# Altium integrated library ST Converter Digital to Analog.IntLib: 22 symbols
Pins are listed as number, name and electrical type; pins without a type are passive.

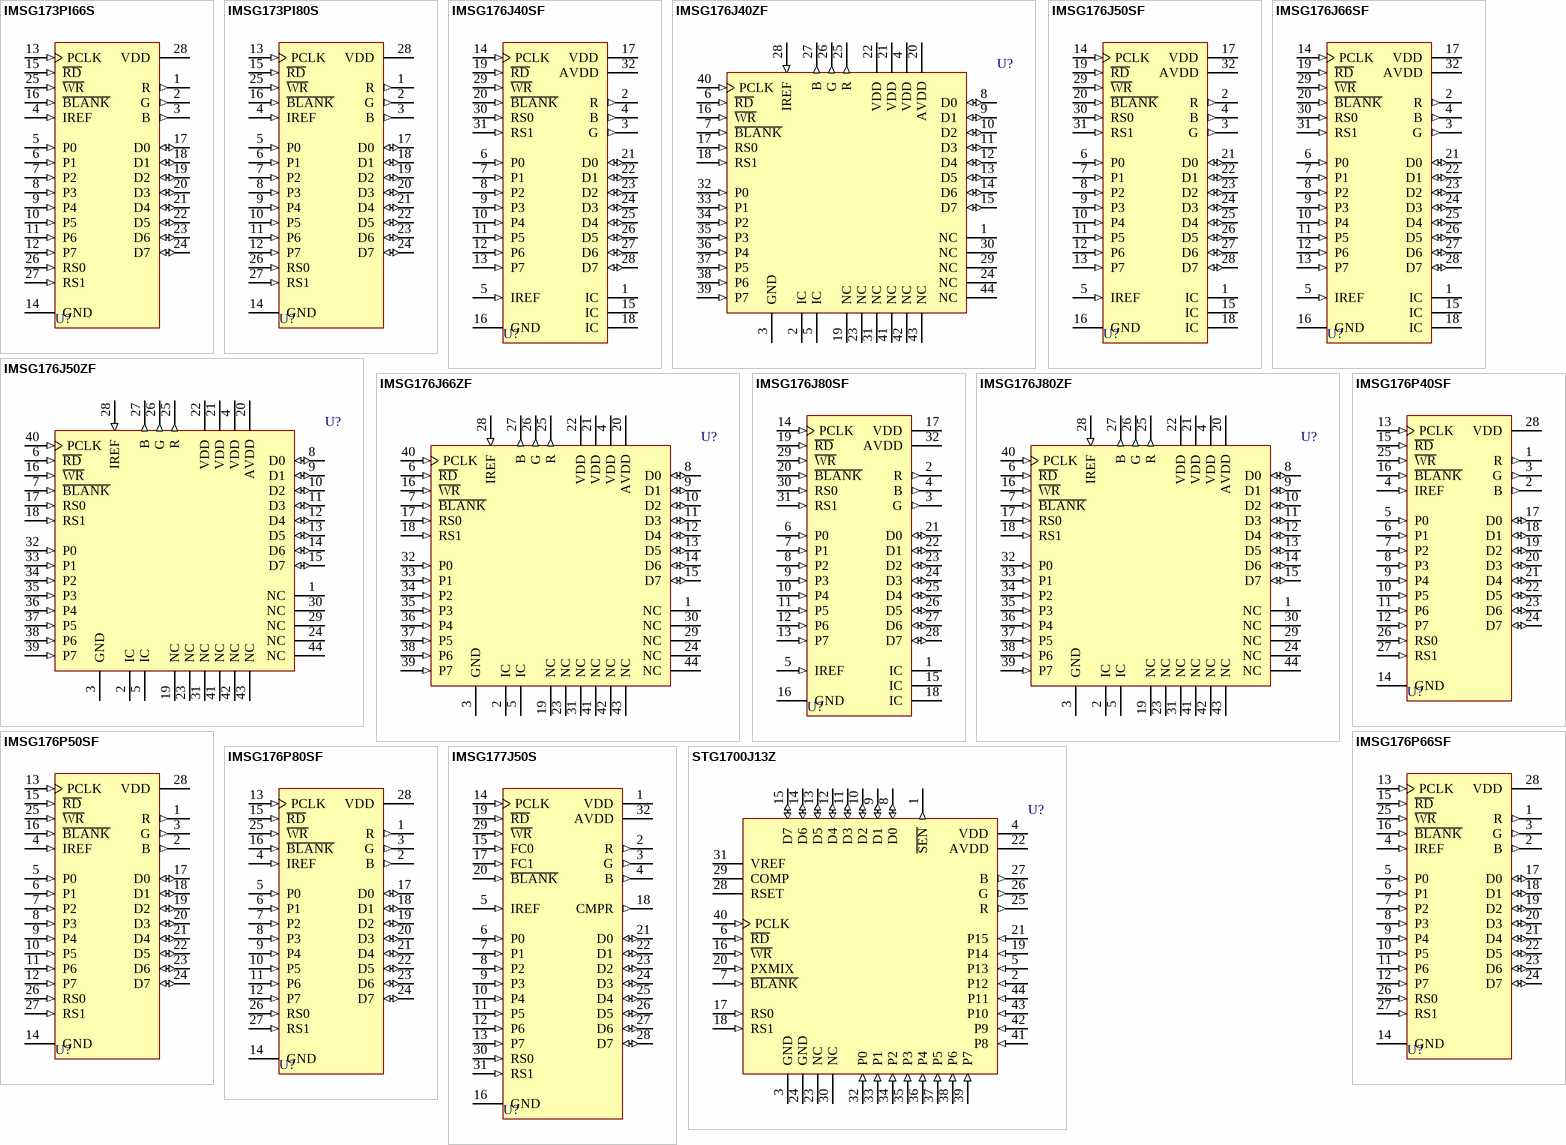
[diagram p0: symbols IMSG173PI66S to STG1700J13Z]

## IMSG173PI66S
designator U?
High-Colour Palette-DAC with PixMix; Published: 24-Aug-2001; LatestRevisionDate: 06-Jun-2005; LatestRevisionNote: Stylized 3D Model Added.; DatasheetVersion: Jul-1992; PackageVersion: Jan-2003; PackageReference: PDIP28; Publisher: Altium Limited; PackageDescription: DIP; 28 Leads; Row Spacing 15.24 mm; Pitch 2.54 mm; ComponentLink1Description: Manufacturer Link; ComponentLink1URL: http://www.st.com/
footprint PDIP28 (DIP; 28 Leads; Row Spacing 15.24 mm; Pitch 2.54 mm)
3D model PDIP28 (DIP; 28 Leads; Row Spacing 15.24 mm; Pitch 2.54 mm)
pins: 1 R (out), 2 G (out), 3 B (out), 4 IREF (in), 5 P0 (in), 6 P1 (in), 7 P2 (in), 8 P3 (in), 9 P4 (in), 10 P5 (in), 11 P6 (in), 12 P7 (in), 13 PCLK (in), 14 GND (power), 15 ~{RD} (in), 16 ~{BLANK} (in), 17 D0 (io), 18 D1 (io), 19 D2 (io), 20 D3 (io), 21 D4 (io), 22 D5 (io), 23 D6 (io), 24 D7 (io), 25 ~{WR} (in), 26 RS0 (in), 27 RS1 (in), 28 VDD (power)

## IMSG173PI80S
designator U?
High-Colour Palette-DAC with PixMix; Published: 24-Aug-2001; LatestRevisionDate: 06-Jun-2005; LatestRevisionNote: Stylized 3D Model Added.; DatasheetVersion: Jul-1992; PackageVersion: Jan-2003; PackageReference: PDIP28; Publisher: Altium Limited; PackageDescription: DIP; 28 Leads; Row Spacing 15.24 mm; Pitch 2.54 mm; ComponentLink1Description: Manufacturer Link; ComponentLink1URL: http://www.st.com/
footprint PDIP28 (DIP; 28 Leads; Row Spacing 15.24 mm; Pitch 2.54 mm)
3D model PDIP28 (DIP; 28 Leads; Row Spacing 15.24 mm; Pitch 2.54 mm)
pins: 1 R (out), 2 G (out), 3 B (out), 4 IREF (in), 5 P0 (in), 6 P1 (in), 7 P2 (in), 8 P3 (in), 9 P4 (in), 10 P5 (in), 11 P6 (in), 12 P7 (in), 13 PCLK (in), 14 GND (power), 15 ~{RD} (in), 16 ~{BLANK} (in), 17 D0 (io), 18 D1 (io), 19 D2 (io), 20 D3 (io), 21 D4 (io), 22 D5 (io), 23 D6 (io), 24 D7 (io), 25 ~{WR} (in), 26 RS0 (in), 27 RS1 (in), 28 VDD (power)

## IMSG176J40SF
designator U?
High-Performance CMOS Palette-DAC; Note: Pins 1, 15 and 18 are internally connected; Published: 24-Aug-2001; LatestRevisionDate: 06-Jun-2005; LatestRevisionNote: Stylized 3D Model Added.; DatasheetVersion: Apr-1992; PackageVersion: Jun-1998; PackageReference: PLCC32; Publisher: Altium Limited; PackageDescription: Leaded Chip Carrier; 32 Leads; Body 11.5 x 14 mm; Code_JEDEC: MS-016-AE; Code_IPC: PLCC/R-32; ComponentLink1Description: Manufacturer Link; ComponentLink1URL: http://www.st.com/
footprint PLCC32 (Leaded Chip Carrier; 32 Leads; Body 11.5 x 14 mm)
3D model IMSG176-PLCC32 (Leaded Chip Carrier; 32 Leads; Body 11.5 x 14 mm)
pins: 1 IC, 2 R (out), 3 G (out), 4 B (out), 5 IREF (in), 6 P0 (in), 7 P1 (in), 8 P2 (in), 9 P3 (in), 10 P4 (in), 11 P5 (in), 12 P6 (in), 13 P7 (in), 14 PCLK (in), 15 IC, 16 GND (power), 17 VDD (power), 18 IC, 19 ~{RD} (in), 20 ~{BLANK} (in), 21 D0 (io), 22 D1 (io), 23 D2 (io), 24 D3 (io), 25 D4 (io), 26 D5 (io), 27 D6 (io), 28 D7 (io), 29 ~{WR} (in), 30 RS0 (in), 31 RS1 (in), 32 AVDD (power)

## IMSG176J40ZF
designator U?
High-Performance CMOS Palette-DAC; Note: Pins 2 and 5 should be tied to GND; Published: 24-Aug-2001; LatestRevisionDate: 13-Apr-2006; LatestRevisionNote: IPC-7351 Footprint Added.; DatasheetVersion: Apr-1992; PackageReference: PLCC44B; Publisher: Altium Limited; PackageDescription: 44-Pin Leaded Chip Carrier 1.27 mm Pitch; ComponentLink1Description: Manufacturer Link; ComponentLink1URL: http://www.st.com/
footprint PLCC44B_N (Leaded Chip Carrier, 44-Leads, Body 16.6x16.6mm, Pitch 1.27mm, IPC Medium Density)
footprint PLCC44B_L (Leaded Chip Carrier, 44-Leads, Body 16.6x16.6mm, Pitch 1.27mm, IPC High Density)
footprint PLCC44B_M (Leaded Chip Carrier, 44-Leads, Body 16.6x16.6mm, Pitch 1.27mm, IPC Low Density)
3D model IMSG176-PLCC44 (44-Pin Leaded Chip Carrier 1.27 mm Pitch)
pins: 1 NC, 2 IC, 3 GND (power), 4 VDD (power), 5 IC, 6 ~{RD} (in), 7 ~{BLANK} (in), 8 D0 (io), 9 D1 (io), 10 D2 (io), 11 D3 (io), 12 D4 (io), 13 D5 (io), 14 D6 (io), 15 D7 (io), 16 ~{WR} (in), 17 RS0 (in), 18 RS1 (in), 19 NC, 20 AVDD (power), 21 VDD (power), 22 VDD (power), 23 NC, 24 NC, 25 R (out), 26 G (out), 27 B (out), 28 IREF (in), 29 NC, 30 NC, 31 NC, 32 P0 (in), 33 P1 (in), 34 P2 (in), 35 P3 (in), 36 P4 (in), 37 P5 (in), 38 P6 (in), 39 P7 (in), 40 PCLK (in), 41 NC, 42 NC, 43 NC, 44 NC

## IMSG176J50SF
designator U?
High-Performance CMOS Palette-DAC; Note: Pins 1, 15 and 18 are internally connected; Published: 24-Aug-2001; LatestRevisionDate: 06-Jun-2005; LatestRevisionNote: Stylized 3D Model Added.; DatasheetVersion: Apr-1992; PackageVersion: Jun-1998; PackageReference: PLCC32; Publisher: Altium Limited; PackageDescription: Leaded Chip Carrier; 32 Leads; Body 11.5 x 14 mm; Code_JEDEC: MS-016-AE; Code_IPC: PLCC/R-32; ComponentLink1Description: Manufacturer Link; ComponentLink1URL: http://www.st.com/
footprint PLCC32 (Leaded Chip Carrier; 32 Leads; Body 11.5 x 14 mm)
3D model IMSG176-PLCC32 (Leaded Chip Carrier; 32 Leads; Body 11.5 x 14 mm)
pins: 1 IC, 2 R (out), 3 G (out), 4 B (out), 5 IREF (in), 6 P0 (in), 7 P1 (in), 8 P2 (in), 9 P3 (in), 10 P4 (in), 11 P5 (in), 12 P6 (in), 13 P7 (in), 14 PCLK (in), 15 IC, 16 GND (power), 17 VDD (power), 18 IC, 19 ~{RD} (in), 20 ~{BLANK} (in), 21 D0 (io), 22 D1 (io), 23 D2 (io), 24 D3 (io), 25 D4 (io), 26 D5 (io), 27 D6 (io), 28 D7 (io), 29 ~{WR} (in), 30 RS0 (in), 31 RS1 (in), 32 AVDD (power)

## IMSG176J50ZF
designator U?
High-Performance CMOS Palette-DAC; Note: Pins 2 and 5 should be tied to GND; Published: 24-Aug-2001; LatestRevisionDate: 13-Apr-2006; LatestRevisionNote: IPC-7351 Footprint Added.; DatasheetVersion: Apr-1992; PackageReference: PLCC44B; Publisher: Altium Limited; PackageDescription: 44-Pin Leaded Chip Carrier 1.27 mm Pitch; ComponentLink1Description: Manufacturer Link; ComponentLink1URL: http://www.st.com/
footprint PLCC44B_N (Leaded Chip Carrier, 44-Leads, Body 16.6x16.6mm, Pitch 1.27mm, IPC Medium Density)
footprint PLCC44B_L (Leaded Chip Carrier, 44-Leads, Body 16.6x16.6mm, Pitch 1.27mm, IPC High Density)
footprint PLCC44B_M (Leaded Chip Carrier, 44-Leads, Body 16.6x16.6mm, Pitch 1.27mm, IPC Low Density)
3D model IMSG176-PLCC44 (44-Pin Leaded Chip Carrier 1.27 mm Pitch)
pins: 1 NC, 2 IC, 3 GND (power), 4 VDD (power), 5 IC, 6 ~{RD} (in), 7 ~{BLANK} (in), 8 D0 (io), 9 D1 (io), 10 D2 (io), 11 D3 (io), 12 D4 (io), 13 D5 (io), 14 D6 (io), 15 D7 (io), 16 ~{WR} (in), 17 RS0 (in), 18 RS1 (in), 19 NC, 20 AVDD (power), 21 VDD (power), 22 VDD (power), 23 NC, 24 NC, 25 R (out), 26 G (out), 27 B (out), 28 IREF (in), 29 NC, 30 NC, 31 NC, 32 P0 (in), 33 P1 (in), 34 P2 (in), 35 P3 (in), 36 P4 (in), 37 P5 (in), 38 P6 (in), 39 P7 (in), 40 PCLK (in), 41 NC, 42 NC, 43 NC, 44 NC

## IMSG176J66SF
designator U?
High-Performance CMOS Palette-DAC; Note: Pins 1, 15 and 18 are internally connected; Published: 24-Aug-2001; LatestRevisionDate: 06-Jun-2005; LatestRevisionNote: Stylized 3D Model Added.; DatasheetVersion: Apr-1992; PackageVersion: Jun-1998; PackageReference: PLCC32; Publisher: Altium Limited; PackageDescription: Leaded Chip Carrier; 32 Leads; Body 11.5 x 14 mm; Code_JEDEC: MS-016-AE; Code_IPC: PLCC/R-32; ComponentLink1Description: Manufacturer Link; ComponentLink1URL: http://www.st.com/
footprint PLCC32 (Leaded Chip Carrier; 32 Leads; Body 11.5 x 14 mm)
3D model IMSG176-PLCC32 (Leaded Chip Carrier; 32 Leads; Body 11.5 x 14 mm)
pins: 1 IC, 2 R (out), 3 G (out), 4 B (out), 5 IREF (in), 6 P0 (in), 7 P1 (in), 8 P2 (in), 9 P3 (in), 10 P4 (in), 11 P5 (in), 12 P6 (in), 13 P7 (in), 14 PCLK (in), 15 IC, 16 GND (power), 17 VDD (power), 18 IC, 19 ~{RD} (in), 20 ~{BLANK} (in), 21 D0 (io), 22 D1 (io), 23 D2 (io), 24 D3 (io), 25 D4 (io), 26 D5 (io), 27 D6 (io), 28 D7 (io), 29 ~{WR} (in), 30 RS0 (in), 31 RS1 (in), 32 AVDD (power)

## IMSG176J66ZF
designator U?
High-Performance CMOS Palette-DAC; Note: Pins 2 and 5 should be tied to GND; Published: 24-Aug-2001; LatestRevisionDate: 13-Apr-2006; LatestRevisionNote: IPC-7351 Footprint Added.; DatasheetVersion: Apr-1992; PackageReference: PLCC44B; Publisher: Altium Limited; PackageDescription: 44-Pin Leaded Chip Carrier 1.27 mm Pitch; ComponentLink1Description: Manufacturer Link; ComponentLink1URL: http://www.st.com/
footprint PLCC44B_N (Leaded Chip Carrier, 44-Leads, Body 16.6x16.6mm, Pitch 1.27mm, IPC Medium Density)
footprint PLCC44B_L (Leaded Chip Carrier, 44-Leads, Body 16.6x16.6mm, Pitch 1.27mm, IPC High Density)
footprint PLCC44B_M (Leaded Chip Carrier, 44-Leads, Body 16.6x16.6mm, Pitch 1.27mm, IPC Low Density)
3D model IMSG176-PLCC44 (44-Pin Leaded Chip Carrier 1.27 mm Pitch)
pins: 1 NC, 2 IC, 3 GND (power), 4 VDD (power), 5 IC, 6 ~{RD} (in), 7 ~{BLANK} (in), 8 D0 (io), 9 D1 (io), 10 D2 (io), 11 D3 (io), 12 D4 (io), 13 D5 (io), 14 D6 (io), 15 D7 (io), 16 ~{WR} (in), 17 RS0 (in), 18 RS1 (in), 19 NC, 20 AVDD (power), 21 VDD (power), 22 VDD (power), 23 NC, 24 NC, 25 R (out), 26 G (out), 27 B (out), 28 IREF (in), 29 NC, 30 NC, 31 NC, 32 P0 (in), 33 P1 (in), 34 P2 (in), 35 P3 (in), 36 P4 (in), 37 P5 (in), 38 P6 (in), 39 P7 (in), 40 PCLK (in), 41 NC, 42 NC, 43 NC, 44 NC

## IMSG176J80SF
designator U?
High-Performance CMOS Palette-DAC; Note: Pins 1, 15 and 18 are internally connected; Published: 24-Aug-2001; LatestRevisionDate: 06-Jun-2005; LatestRevisionNote: Stylized 3D Model Added.; DatasheetVersion: Apr-1992; PackageVersion: Jun-1998; PackageReference: PLCC32; Publisher: Altium Limited; PackageDescription: Leaded Chip Carrier; 32 Leads; Body 11.5 x 14 mm; Code_JEDEC: MS-016-AE; Code_IPC: PLCC/R-32; ComponentLink1Description: Manufacturer Link; ComponentLink1URL: http://www.st.com/
footprint PLCC32 (Leaded Chip Carrier; 32 Leads; Body 11.5 x 14 mm)
3D model IMSG176-PLCC32 (Leaded Chip Carrier; 32 Leads; Body 11.5 x 14 mm)
pins: 1 IC, 2 R (out), 3 G (out), 4 B (out), 5 IREF (in), 6 P0 (in), 7 P1 (in), 8 P2 (in), 9 P3 (in), 10 P4 (in), 11 P5 (in), 12 P6 (in), 13 P7 (in), 14 PCLK (in), 15 IC, 16 GND (power), 17 VDD (power), 18 IC, 19 ~{RD} (in), 20 ~{BLANK} (in), 21 D0 (io), 22 D1 (io), 23 D2 (io), 24 D3 (io), 25 D4 (io), 26 D5 (io), 27 D6 (io), 28 D7 (io), 29 ~{WR} (in), 30 RS0 (in), 31 RS1 (in), 32 AVDD (power)

## IMSG176J80ZF
designator U?
High-Performance CMOS Palette-DAC; Note: Pins 2 and 5 should be tied to GND; Published: 24-Aug-2001; LatestRevisionDate: 13-Apr-2006; LatestRevisionNote: IPC-7351 Footprint Added.; DatasheetVersion: Apr-1992; PackageReference: PLCC44B; Publisher: Altium Limited; PackageDescription: 44-Pin Leaded Chip Carrier 1.27 mm Pitch; ComponentLink1Description: Manufacturer Link; ComponentLink1URL: http://www.st.com/
footprint PLCC44B_N (Leaded Chip Carrier, 44-Leads, Body 16.6x16.6mm, Pitch 1.27mm, IPC Medium Density)
footprint PLCC44B_L (Leaded Chip Carrier, 44-Leads, Body 16.6x16.6mm, Pitch 1.27mm, IPC High Density)
footprint PLCC44B_M (Leaded Chip Carrier, 44-Leads, Body 16.6x16.6mm, Pitch 1.27mm, IPC Low Density)
3D model IMSG176-PLCC44 (44-Pin Leaded Chip Carrier 1.27 mm Pitch)
pins: 1 NC, 2 IC, 3 GND (power), 4 VDD (power), 5 IC, 6 ~{RD} (in), 7 ~{BLANK} (in), 8 D0 (io), 9 D1 (io), 10 D2 (io), 11 D3 (io), 12 D4 (io), 13 D5 (io), 14 D6 (io), 15 D7 (io), 16 ~{WR} (in), 17 RS0 (in), 18 RS1 (in), 19 NC, 20 AVDD (power), 21 VDD (power), 22 VDD (power), 23 NC, 24 NC, 25 R (out), 26 G (out), 27 B (out), 28 IREF (in), 29 NC, 30 NC, 31 NC, 32 P0 (in), 33 P1 (in), 34 P2 (in), 35 P3 (in), 36 P4 (in), 37 P5 (in), 38 P6 (in), 39 P7 (in), 40 PCLK (in), 41 NC, 42 NC, 43 NC, 44 NC

## IMSG176P40SF
designator U?
High-Performance CMOS Palette-DAC; Published: 24-Aug-2001; LatestRevisionDate: 06-Jun-2005; LatestRevisionNote: Stylized 3D Model Added.; DatasheetVersion: Apr-1992; PackageVersion: Jan-2003; PackageReference: PDIP28; Publisher: Altium Limited; PackageDescription: DIP; 28 Leads; Row Spacing 15.24 mm; Pitch 2.54 mm; ComponentLink1Description: Manufacturer Link; ComponentLink1URL: http://www.st.com/
footprint PDIP28 (DIP; 28 Leads; Row Spacing 15.24 mm; Pitch 2.54 mm)
3D model PDIP28 (DIP; 28 Leads; Row Spacing 15.24 mm; Pitch 2.54 mm)
pins: 1 R (out), 2 B (out), 3 G (out), 4 IREF (in), 5 P0 (in), 6 P1 (in), 7 P2 (in), 8 P3 (in), 9 P4 (in), 10 P5 (in), 11 P6 (in), 12 P7 (in), 13 PCLK (in), 14 GND (power), 15 ~{RD} (in), 16 ~{BLANK} (in), 17 D0 (io), 18 D1 (io), 19 D2 (io), 20 D3 (io), 21 D4 (io), 22 D5 (io), 23 D6 (io), 24 D7 (io), 25 ~{WR} (in), 26 RS0 (in), 27 RS1 (in), 28 VDD (power)

## IMSG176P50SF
designator U?
High-Performance CMOS Palette-DAC; Published: 24-Aug-2001; LatestRevisionDate: 06-Jun-2005; LatestRevisionNote: Stylized 3D Model Added.; DatasheetVersion: Apr-1992; PackageVersion: Jan-2003; PackageReference: PDIP28; Publisher: Altium Limited; PackageDescription: DIP; 28 Leads; Row Spacing 15.24 mm; Pitch 2.54 mm; ComponentLink1Description: Manufacturer Link; ComponentLink1URL: http://www.st.com/
footprint PDIP28 (DIP; 28 Leads; Row Spacing 15.24 mm; Pitch 2.54 mm)
3D model PDIP28 (DIP; 28 Leads; Row Spacing 15.24 mm; Pitch 2.54 mm)
pins: 1 R (out), 2 B (out), 3 G (out), 4 IREF (in), 5 P0 (in), 6 P1 (in), 7 P2 (in), 8 P3 (in), 9 P4 (in), 10 P5 (in), 11 P6 (in), 12 P7 (in), 13 PCLK (in), 14 GND (power), 15 ~{RD} (in), 16 ~{BLANK} (in), 17 D0 (io), 18 D1 (io), 19 D2 (io), 20 D3 (io), 21 D4 (io), 22 D5 (io), 23 D6 (io), 24 D7 (io), 25 ~{WR} (in), 26 RS0 (in), 27 RS1 (in), 28 VDD (power)

## IMSG176P66SF
designator U?
High-Performance CMOS Palette-DAC; Published: 24-Aug-2001; LatestRevisionDate: 06-Jun-2005; LatestRevisionNote: Stylized 3D Model Added.; DatasheetVersion: Apr-1992; PackageVersion: Jan-2003; PackageReference: PDIP28; Publisher: Altium Limited; PackageDescription: DIP; 28 Leads; Row Spacing 15.24 mm; Pitch 2.54 mm; ComponentLink1Description: Manufacturer Link; ComponentLink1URL: http://www.st.com/
footprint PDIP28 (DIP; 28 Leads; Row Spacing 15.24 mm; Pitch 2.54 mm)
3D model PDIP28 (DIP; 28 Leads; Row Spacing 15.24 mm; Pitch 2.54 mm)
pins: 1 R (out), 2 B (out), 3 G (out), 4 IREF (in), 5 P0 (in), 6 P1 (in), 7 P2 (in), 8 P3 (in), 9 P4 (in), 10 P5 (in), 11 P6 (in), 12 P7 (in), 13 PCLK (in), 14 GND (power), 15 ~{RD} (in), 16 ~{BLANK} (in), 17 D0 (io), 18 D1 (io), 19 D2 (io), 20 D3 (io), 21 D4 (io), 22 D5 (io), 23 D6 (io), 24 D7 (io), 25 ~{WR} (in), 26 RS0 (in), 27 RS1 (in), 28 VDD (power)

## IMSG176P80SF
designator U?
High-Performance CMOS Palette-DAC; Published: 24-Aug-2001; LatestRevisionDate: 06-Jun-2005; LatestRevisionNote: Stylized 3D Model Added.; DatasheetVersion: Apr-1992; PackageVersion: Jan-2003; PackageReference: PDIP28; Publisher: Altium Limited; PackageDescription: DIP; 28 Leads; Row Spacing 15.24 mm; Pitch 2.54 mm; ComponentLink1Description: Manufacturer Link; ComponentLink1URL: http://www.st.com/
footprint PDIP28 (DIP; 28 Leads; Row Spacing 15.24 mm; Pitch 2.54 mm)
3D model PDIP28 (DIP; 28 Leads; Row Spacing 15.24 mm; Pitch 2.54 mm)
pins: 1 R (out), 2 B (out), 3 G (out), 4 IREF (in), 5 P0 (in), 6 P1 (in), 7 P2 (in), 8 P3 (in), 9 P4 (in), 10 P5 (in), 11 P6 (in), 12 P7 (in), 13 PCLK (in), 14 GND (power), 15 ~{RD} (in), 16 ~{BLANK} (in), 17 D0 (io), 18 D1 (io), 19 D2 (io), 20 D3 (io), 21 D4 (io), 22 D5 (io), 23 D6 (io), 24 D7 (io), 25 ~{WR} (in), 26 RS0 (in), 27 RS1 (in), 28 VDD (power)

## IMSG177J50S
designator U?
Power Down Colour Palette-DAC; Published: 24-Aug-2001; LatestRevisionDate: 06-Jun-2005; LatestRevisionNote: Stylized 3D Model Added.; DatasheetVersion: Apr-1992; PackageVersion: Jun-1998; PackageReference: PLCC32; Publisher: Altium Limited; PackageDescription: Leaded Chip Carrier; 32 Leads; Body 11.5 x 14 mm; Code_JEDEC: MS-016-AE; Code_IPC: PLCC/R-32; ComponentLink1Description: Manufacturer Link; ComponentLink1URL: http://www.st.com/
footprint PLCC32 (Leaded Chip Carrier; 32 Leads; Body 11.5 x 14 mm)
3D model IMSG177-PLCC32 (Leaded Chip Carrier; 32 Leads; Body 11.5 x 14 mm)
pins: 1 VDD (power), 2 R (out), 3 G (out), 4 B (out), 5 IREF (in), 6 P0 (in), 7 P1 (in), 8 P2 (in), 9 P3 (in), 10 P4 (in), 11 P5 (in), 12 P6 (in), 13 P7 (in), 14 PCLK (in), 15 FC0 (in), 16 GND (power), 17 FC1 (in), 18 CMPR (out), 19 ~{RD} (in), 20 ~{BLANK} (in), 21 D0 (io), 22 D1 (io), 23 D2 (io), 24 D3 (io), 25 D4 (io), 26 D5 (io), 27 D6 (io), 28 D7 (io), 29 ~{WR} (in), 30 RS0 (in), 31 RS1 (in), 32 AVDD (power)

## STG1700J13Z
designator U?
True-Colour Palette-DAC with 16-Bit Pixel Port; Published: 24-Aug-2001; LatestRevisionDate: 13-Apr-2006; LatestRevisionNote: IPC-7351 Footprint Added.; PackageReference: PLCC44B; Publisher: Altium Limited; PackageDescription: 44-Pin Leaded Chip Carrier 1.27 mm Pitch; ComponentLink1Description: Manufacturer Link; ComponentLink1URL: http://www.st.com/
footprint PLCC44B_N (Leaded Chip Carrier, 44-Leads, Body 16.6x16.6mm, Pitch 1.27mm, IPC Medium Density)
footprint PLCC44B_L (Leaded Chip Carrier, 44-Leads, Body 16.6x16.6mm, Pitch 1.27mm, IPC High Density)
footprint PLCC44B_M (Leaded Chip Carrier, 44-Leads, Body 16.6x16.6mm, Pitch 1.27mm, IPC Low Density)
3D model STG1700-PLCC44 (44-Pin Leaded Chip Carrier 1.27 mm Pitch)
pins: 1 ~{SEN} (out), 2 P12 (in), 3 GND (power), 4 VDD (power), 5 P13 (in), 6 ~{RD} (in), 7 ~{BLANK} (in), 8 D0 (io), 9 D1 (io), 10 D2 (io), 11 D3 (io), 12 D4 (io), 13 D5 (io), 14 D6 (io), 15 D7 (io), 16 ~{WR} (in), 17 RS0 (in), 18 RS1 (in), 19 P14 (in), 20 PXMIX (in), 21 P15 (in), 22 AVDD (power), 23 NC, 24 GND (power), 25 R (out), 26 G (out), 27 B (out), 28 RSET, 29 COMP, 30 NC, 31 VREF, 32 P0 (in), 33 P1 (in), 34 P2 (in), 35 P3 (in), 36 P4 (in), 37 P5 (in), 38 P6 (in), 39 P7 (in), 40 PCLK (in), 41 P8 (in), 42 P9 (in), 43 P10 (in), 44 P11 (in)

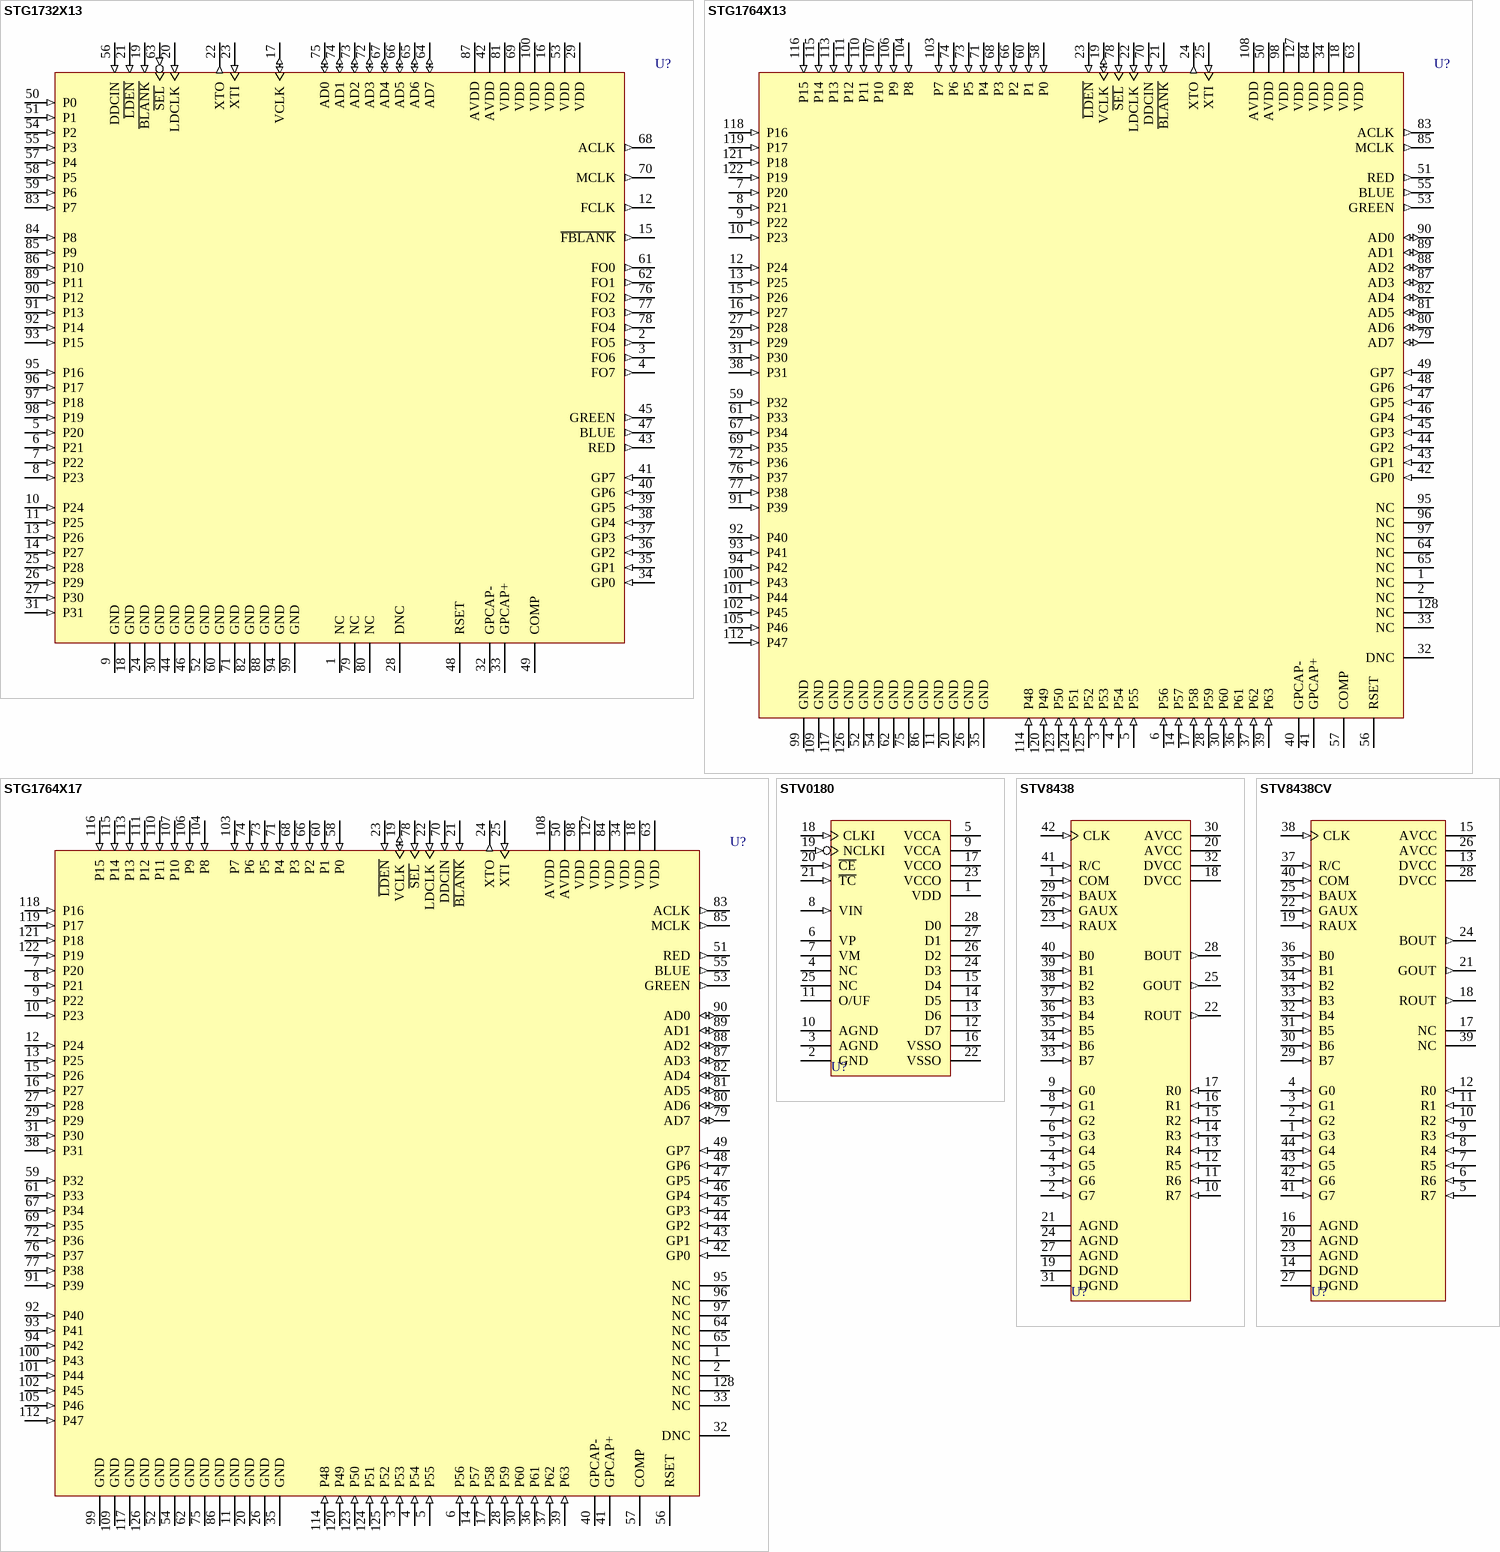
[diagram p1: symbols STG1732X13 to STV8438CV]

## STG1732X13
designator U?
32/64-Bit Multimedia Palette-DAC; Note: Make no connection to pin 28; Published: 24-Aug-2001; LatestRevisionDate: 13-Apr-2006; LatestRevisionNote: IPC-7351 Footprint Added.; DatasheetVersion: Jun-1995; PackageVersion: Jun-2003; PackageReference: PQFP100; Publisher: Altium Limited; PackageDescription: 100-Pin Plastic Quad Flat Pack Rectangular 0.65 mm Pitch; Code_IPC: QFP65P1720X2320-100; ComponentLink1Description: Manufacturer Link; ComponentLink1URL: http://www.st.com/
footprint PQFP100_N (QFP, 100-Leads, Body 20x14mm, Pitch 0.65mm, IPC Medium Density)
footprint PQFP100_L (QFP, 100-Leads, Body 20x14mm, Pitch 0.65mm, IPC High Density)
footprint PQFP100_M (QFP, 100-Leads, Body 20x14mm, Pitch 0.65mm, IPC Low Density)
3D model STG1732-PQFP100 (100-Pin Plastic Quad Flat Pack Rectangular 0.65 mm Pitch)
pins: 1 NC, 2 FO5 (out), 3 FO6 (out), 4 FO7 (out), 5 P20 (in), 6 P21 (in), 7 P22 (in), 8 P23 (in), 9 GND (power), 10 P24 (in), 11 P25 (in), 12 FCLK (out), 13 P26 (in), 14 P27 (in), 15 ~{FBLANK} (out), 16 VDD (power), 17 VCLK (io), 18 GND (power), 19 ~{BLANK} (in), 20 LDCLK (in), 21 ~{LDEN} (in), 22 XTO (out), 23 XTI (in), 24 GND (power), 25 P28 (in), 26 P29 (in), 27 P30 (in), 28 DNC, 29 VDD (power), 30 GND (power), 31 P31 (in), 32 GPCAP-, 33 GPCAP+, 34 GP0 (in), 35 GP1 (in), 36 GP2 (in), 37 GP3 (in), 38 GP4 (in), 39 GP5 (in), 40 GP6 (in), 41 GP7 (in), 42 AVDD (power), 43 RED (out), 44 GND (power), 45 GREEN (out), 46 GND (power), 47 BLUE (out), 48 RSET, 49 COMP, 50 P0 (in), 51 P1 (in), 52 GND (power), 53 VDD (power), 54 P2 (in), 55 P3 (in), 56 DDCIN (in), 57 P4 (in), 58 P5 (in), 59 P6 (in), 60 GND (power), 61 FO0 (out), 62 FO1 (out), 63 ~{SEL} (in), 64 AD7 (io), 65 AD6 (io), 66 AD5 (io), 67 AD4 (io), 68 ACLK (out), 69 VDD (power), 70 MCLK (out), 71 GND (power), 72 AD3 (io), 73 AD2 (io), 74 AD1 (io), 75 AD0 (io), 76 FO2 (out), 77 FO3 (out), 78 FO4 (out), 79 NC, 80 NC, 81 VDD (power), 82 GND (power), 83 P7 (in), 84 P8 (in), 85 P9 (in), 86 P10 (in), 87 AVDD (power), 88 GND (power), 89 P11 (in), 90 P12 (in), 91 P13 (in), 92 P14 (in), 93 P15 (in), 94 GND (power), 95 P16 (in), 96 P17 (in), 97 P18 (in), 98 P19 (in), 99 GND (power), 100 VDD (power)

## STG1764X13
designator U?
32/64-Bit Multimedia Palette-DAC; Note: Make no connection to pin 32; Published: 24-Aug-2001; LatestRevisionDate: 13-Apr-2006; LatestRevisionNote: IPC-7351 Footprint Added.; DatasheetVersion: Jun-1995; PackageVersion: Jun-1995; PackageReference: PQFP128; Publisher: Altium Limited; PackageDescription: 128-Pin Plastic Quad Flat Pack 0.8 mm Pitch; Code_IPC: QFP80P3120X3120-128; ComponentLink1Description: Manufacturer Link; ComponentLink1URL: http://www.st.com/
footprint PQFP128_N (QFP, 128-Leads, Body 28x28mm, Pitch 0.8mm, IPC Medium Density)
footprint PQFP128_L (QFP, 128-Leads, Body 28x28mm, Pitch 0.8mm, IPC High Density)
footprint PQFP128_M (QFP, 128-Leads, Body 28x28mm, Pitch 0.8mm, IPC Low Density)
3D model STG1764-PQFP128 (128-Pin Plastic Quad Flat Pack 0.8 mm Pitch)
pins: 1 NC, 2 NC, 3 P53 (in), 4 P54 (in), 5 P55 (in), 6 P56 (in), 7 P20 (in), 8 P21 (in), 9 P22 (in), 10 P23 (in), 11 GND (power), 12 P24 (in), 13 P25 (in), 14 P57 (in), 15 P26 (in), 16 P27 (in), 17 P58 (in), 18 VDD (power), 19 VCLK (io), 20 GND (power), 21 ~{BLANK} (in), 22 LDCLK (in), 23 ~{LDEN} (in), 24 XTO (out), 25 XTI (in), 26 GND (power), 27 P28 (in), 28 P59 (in), 29 P29 (in), 30 P60 (in), 31 P30 (in), 32 DNC, 33 NC, 34 VDD (power), 35 GND (power), 36 P61 (in), 37 P62 (in), 38 P31 (in), 39 P63 (in), 40 GPCAP-, 41 GPCAP+, 42 GP0 (in), 43 GP1 (in), 44 GP2 (in), 45 GP3 (in), 46 GP4 (in), 47 GP5 (in), 48 GP6 (in), 49 GP7 (in), 50 AVDD (power), 51 RED (out), 52 GND (power), 53 GREEN (out), 54 GND (power), 55 BLUE (out), 56 RSET, 57 COMP, 58 P0 (in), 59 P32 (in), 60 P1 (in), 61 P33 (in), 62 GND (power), 63 VDD (power), 64 NC, 65 NC, 66 P2 (in), 67 P34 (in), 68 P3 (in), 69 P35 (in), 70 DDCIN (in), 71 P4 (in), 72 P36 (in), 73 P5 (in), 74 P6 (in), 75 GND (power), 76 P37 (in), 77 P38 (in), 78 ~{SEL} (in), 79 AD7 (io), 80 AD6 (io), 81 AD5 (io), 82 AD4 (io), 83 ACLK (out), 84 VDD (power), 85 MCLK (out), 86 GND (power), 87 AD3 (io), 88 AD2 (io), 89 AD1 (io), 90 AD0 (io), 91 P39 (in), 92 P40 (in), 93 P41 (in), 94 P42 (in), 95 NC, 96 NC, 97 NC, 98 VDD (power), 99 GND (power), 100 P43 (in), 101 P44 (in), 102 P45 (in), 103 P7 (in), 104 P8 (in), 105 P46 (in), 106 P9 (in), 107 P10 (in), 108 AVDD (power), 109 GND (power), 110 P11 (in), 111 P12 (in), 112 P47 (in), 113 P13 (in), 114 P48 (in), 115 P14 (in), 116 P15 (in), 117 GND (power), 118 P16 (in), 119 P17 (in), 120 P49 (in), 121 P18 (in), 122 P19 (in), 123 P50 (in), 124 P51 (in), 125 P52 (in), 126 GND (power), 127 VDD (power), 128 NC

## STG1764X17
designator U?
32/64-Bit Multimedia Palette-DAC; Note: Make no connection to pin 32; Published: 24-Aug-2001; LatestRevisionDate: 13-Apr-2006; LatestRevisionNote: IPC-7351 Footprint Added.; DatasheetVersion: Jun-1995; PackageVersion: Jun-1995; PackageReference: PQFP128; Publisher: Altium Limited; PackageDescription: 128-Pin Plastic Quad Flat Pack 0.8 mm Pitch; Code_IPC: QFP80P3120X3120-128; ComponentLink1Description: Manufacturer Link; ComponentLink1URL: http://www.st.com/
footprint PQFP128_N (QFP, 128-Leads, Body 28x28mm, Pitch 0.8mm, IPC Medium Density)
footprint PQFP128_L (QFP, 128-Leads, Body 28x28mm, Pitch 0.8mm, IPC High Density)
footprint PQFP128_M (QFP, 128-Leads, Body 28x28mm, Pitch 0.8mm, IPC Low Density)
3D model STG1764-PQFP128 (128-Pin Plastic Quad Flat Pack 0.8 mm Pitch)
pins: 1 NC, 2 NC, 3 P53 (in), 4 P54 (in), 5 P55 (in), 6 P56 (in), 7 P20 (in), 8 P21 (in), 9 P22 (in), 10 P23 (in), 11 GND (power), 12 P24 (in), 13 P25 (in), 14 P57 (in), 15 P26 (in), 16 P27 (in), 17 P58 (in), 18 VDD (power), 19 VCLK (io), 20 GND (power), 21 ~{BLANK} (in), 22 LDCLK (in), 23 ~{LDEN} (in), 24 XTO (out), 25 XTI (in), 26 GND (power), 27 P28 (in), 28 P59 (in), 29 P29 (in), 30 P60 (in), 31 P30 (in), 32 DNC, 33 NC, 34 VDD (power), 35 GND (power), 36 P61 (in), 37 P62 (in), 38 P31 (in), 39 P63 (in), 40 GPCAP-, 41 GPCAP+, 42 GP0 (in), 43 GP1 (in), 44 GP2 (in), 45 GP3 (in), 46 GP4 (in), 47 GP5 (in), 48 GP6 (in), 49 GP7 (in), 50 AVDD (power), 51 RED (out), 52 GND (power), 53 GREEN (out), 54 GND (power), 55 BLUE (out), 56 RSET, 57 COMP, 58 P0 (in), 59 P32 (in), 60 P1 (in), 61 P33 (in), 62 GND (power), 63 VDD (power), 64 NC, 65 NC, 66 P2 (in), 67 P34 (in), 68 P3 (in), 69 P35 (in), 70 DDCIN (in), 71 P4 (in), 72 P36 (in), 73 P5 (in), 74 P6 (in), 75 GND (power), 76 P37 (in), 77 P38 (in), 78 ~{SEL} (in), 79 AD7 (io), 80 AD6 (io), 81 AD5 (io), 82 AD4 (io), 83 ACLK (out), 84 VDD (power), 85 MCLK (out), 86 GND (power), 87 AD3 (io), 88 AD2 (io), 89 AD1 (io), 90 AD0 (io), 91 P39 (in), 92 P40 (in), 93 P41 (in), 94 P42 (in), 95 NC, 96 NC, 97 NC, 98 VDD (power), 99 GND (power), 100 P43 (in), 101 P44 (in), 102 P45 (in), 103 P7 (in), 104 P8 (in), 105 P46 (in), 106 P9 (in), 107 P10 (in), 108 AVDD (power), 109 GND (power), 110 P11 (in), 111 P12 (in), 112 P47 (in), 113 P13 (in), 114 P48 (in), 115 P14 (in), 116 P15 (in), 117 GND (power), 118 P16 (in), 119 P17 (in), 120 P49 (in), 121 P18 (in), 122 P19 (in), 123 P50 (in), 124 P51 (in), 125 P52 (in), 126 GND (power), 127 VDD (power), 128 NC

## STV0180
designator U?
High-Speed 8-Bit ADC; Published: 24-Aug-2001; LatestRevisionDate: 13-Apr-2006; LatestRevisionNote: IPC-7351 Footprint Added.; DatasheetVersion: Jan-1995; PackageVersion: Jul-2001; PackageReference: SO28; Publisher: Altium Limited; PackageDescription: 28-Pin Plastic Small Outline Integrated Circuit 1.27 mm Pitch; ComponentLink1Description: Manufacturer Link; ComponentLink1URL: http://www.st.com/
footprint SO28_N (SOIC, 28-Leads, Body 17.9x7.5mm, Pitch 1.27mm, IPC Medium Density)
footprint SO28_L (SOIC, 28-Leads, Body 17.9x7.5mm, Pitch 1.27mm, IPC High Density)
footprint SO28_M (SOIC, 28-Leads, Body 17.9x7.5mm, Pitch 1.27mm, IPC Low Density)
3D model SO28 (28-Pin Plastic Small Outline Integrated Circuit 1.27 mm Pitch)
pins: 1 VDD (power), 2 GND (power), 3 AGND (power), 4 NC, 5 VCCA (power), 6 VP, 7 VM, 8 VIN (in), 9 VCCA (power), 10 AGND (power), 11 O/UF (hiz), 12 D7 (hiz), 13 D6 (hiz), 14 D5 (hiz), 15 D4 (hiz), 16 VSSO (power), 17 VCCO (power), 18 CLKI (in), 19 NCLKI (in), 20 ~{CE} (in), 21 ~{TC} (in), 22 VSSO (power), 23 VCCO (power), 24 D3 (hiz), 25 NC, 26 D2 (hiz), 27 D1 (hiz), 28 D0 (hiz)

## STV8438
designator U?
Triple 8-Bit D/A Converter; Published: 24-Aug-2001; LatestRevisionDate: 06-Jun-2005; LatestRevisionNote: Stylized 3D Model Added.; DatasheetVersion: May-1992; PackageVersion: Oct-2003; PackageReference: PSDIP42; Publisher: Altium Limited; PackageDescription: DIP, Plastic Shrink; 42 Leads; Row Spacing 15.24 mm; Pitch 1.78 mm; ComponentLink1Description: Manufacturer Link; ComponentLink1URL: http://www.st.com/
footprint PSDIP42 (DIP, Plastic Shrink; 42 Leads; Row Spacing 15.24 mm; Pitch 1.78 mm)
3D model PSDIP42 (DIP, Plastic Shrink; 42 Leads; Row Spacing 15.24 mm; Pitch 1.78 mm)
pins: 1 COM (in), 2 G7 (in), 3 G6 (in), 4 G5 (in), 5 G4 (in), 6 G3 (in), 7 G2 (in), 8 G1 (in), 9 G0 (in), 10 R7 (in), 11 R6 (in), 12 R5 (in), 13 R4 (in), 14 R3 (in), 15 R2 (in), 16 R1 (in), 17 R0 (in), 18 DVCC (power), 19 DGND (power), 20 AVCC (power), 21 AGND (power), 22 ROUT (out), 23 RAUX (in), 24 AGND (power), 25 GOUT (out), 26 GAUX (in), 27 AGND (power), 28 BOUT (out), 29 BAUX (in), 30 AVCC (power), 31 DGND (power), 32 DVCC (power), 33 B7 (in), 34 B6 (in), 35 B5 (in), 36 B4 (in), 37 B3 (in), 38 B2 (in), 39 B1 (in), 40 B0 (in), 41 R/C (in), 42 CLK (in)

## STV8438CV
designator U?
Triple 8-Bit D/A Converter; Published: 24-Aug-2001; LatestRevisionDate: 13-Apr-2006; LatestRevisionNote: IPC-7351 Footprint Added.; DatasheetVersion: May-1992; PackageReference: PQFP44; Publisher: Altium Limited; PackageDescription: 44-Pin Quad Flat Pack 1 mm Pitch; ComponentLink1Description: Manufacturer Link; ComponentLink1URL: http://www.st.com/
footprint PQFP44_N (QFP, 44-Leads, Body 14x14mm, Pitch 1mm, IPC Medium Density)
footprint PQFP44_L (QFP, 44-Leads, Body 14x14mm, Pitch 1mm, IPC High Density)
footprint PQFP44_M (QFP, 44-Leads, Body 14x14mm, Pitch 1mm, IPC Low Density)
3D model STV8438CV-PQFP44 (44-Pin Quad Flat Pack 1 mm Pitch)
pins: 1 G3 (in), 2 G2 (in), 3 G1 (in), 4 G0 (in), 5 R7 (in), 6 R6 (in), 7 R5 (in), 8 R4 (in), 9 R3 (in), 10 R2 (in), 11 R1 (in), 12 R0 (in), 13 DVCC (power), 14 DGND (power), 15 AVCC (power), 16 AGND (power), 17 NC, 18 ROUT (out), 19 RAUX (in), 20 AGND (power), 21 GOUT (out), 22 GAUX (in), 23 AGND (power), 24 BOUT (out), 25 BAUX (in), 26 AVCC (power), 27 DGND (power), 28 DVCC (power), 29 B7 (in), 30 B6 (in), 31 B5 (in), 32 B4 (in), 33 B3 (in), 34 B2 (in), 35 B1 (in), 36 B0 (in), 37 R/C (in), 38 CLK (in), 39 NC, 40 COM (in), 41 G7 (in), 42 G6 (in), 43 G5 (in), 44 G4 (in)